# Altium integrated library nucleo-144.IntLib: 1 symbol
Pins are listed as number, name and electrical type; pins without a type are passive.

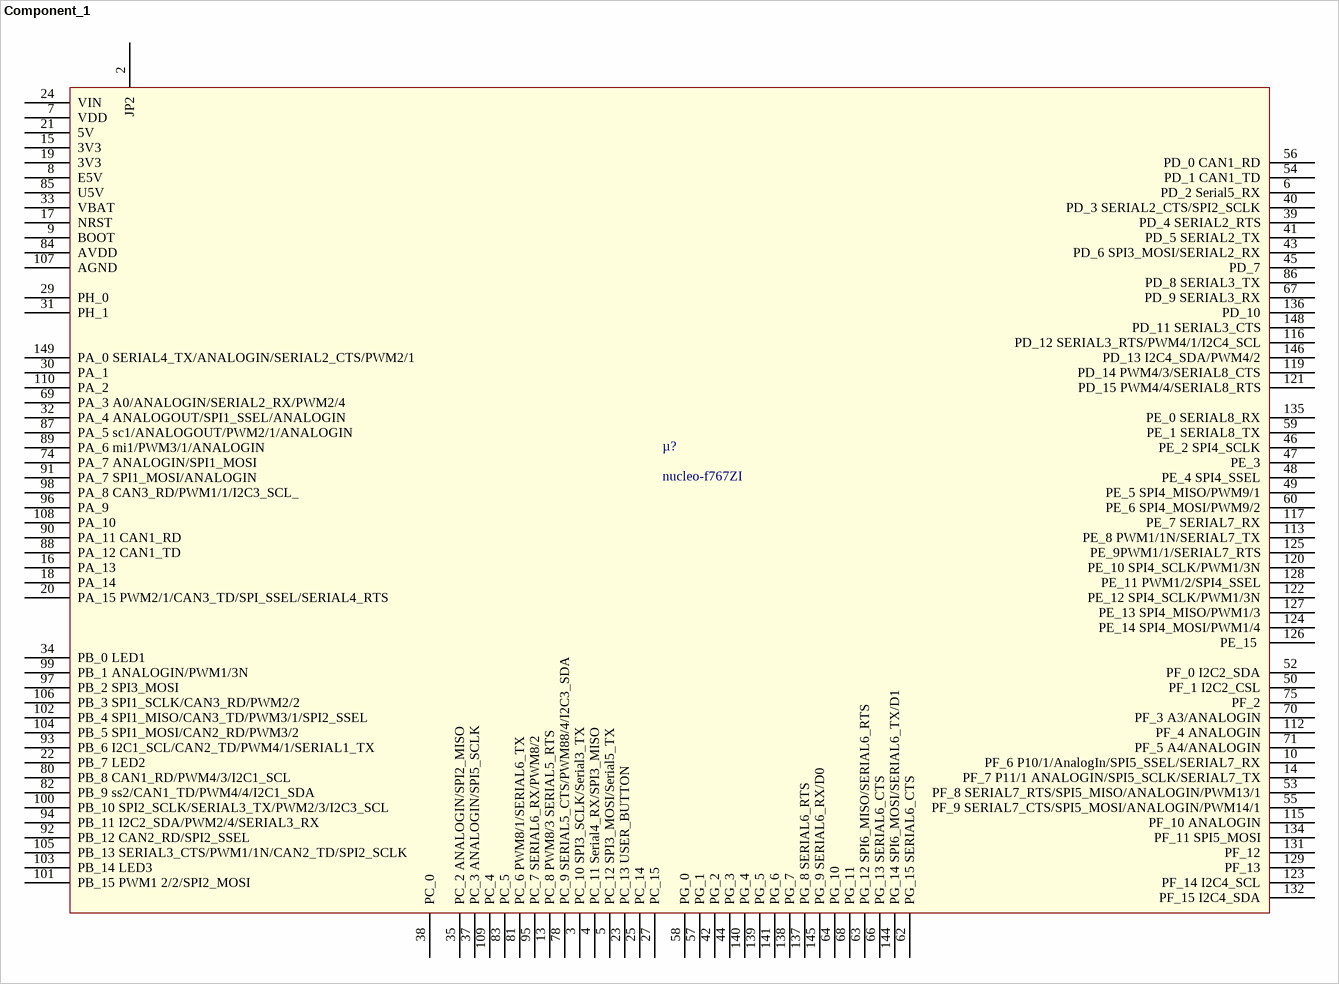
[diagram p0: symbol Component_1]

## Component_1
designator µ?, comment nucleo-f767ZI
footprint nucleo-144
pins: 1 GND (power) hidden to GND, 2 JP2, 3 PC_10 SPI3_SCLK/Serial3_TX, 4 PC_11 Serial4_RX/SPI3_MISO, 5 PC_12 SPI3_MOSI/Serial5_TX, 6 PD_2 Serial5_RX, 7 VDD, 8 E5V, 9 BOOT, 10 PF_6 P10/1/AnalogIn/SPI5_SSEL/SERIAL7_RX, 11 NC hidden, 12 NC hidden, 13 PC_8 PWM8/3 SERIAL5_RTS, 14 PF_7 P11/1 ANALOGIN/SPI5_SCLK/SERIAL7_TX, 15 3V3, 16 PA_13, 17 NRST, 18 PA_14, 19 3V3, 20 PA_15 PWM2/1/CAN3_TD/SPI_SSEL/SERIAL4_RTS, 21 5V, 22 PB_7 LED2, 23 PC_13 USER_BUTTON, 24 VIN (power), 25 PC_14, 26 NC hidden, 27 PC_15, 29 PH_0, 30 PA_1, 31 PH_1, 32 PA_4 ANALOGOUT/SPI1_SSEL/ANALOGIN, 33 VBAT, 34 PB_0 LED1, 35 PC_2 ANALOGIN/SPI2_MISO, 37 PC_3 ANALOGIN/SPI5_SCLK, 38 PC_0, 39 PD_4 SERIAL2_RTS, 40 PD_3 SERIAL2_CTS/SPI2_SCLK, 41 PD_5 SERIAL2_TX, 42 PG_2 , 43 PD_6 SPI3_MOSI/SERIAL2_RX, 44 PG_3, 45 PD_7, 46 PE_2 SPI4_SCLK, 47 PE_3, 48 PE_4 SPI4_SSEL, 49 PE_5 SPI4_MISO/PWM9/1, 50 PF_1 I2C2_CSL, 52 PF_0 I2C2_SDA, 53 PF_8 SERIAL7_RTS/SPI5_MISO/ANALOGIN/PWM13/1, 54 PD_1 CAN1_TD, 55 PF_9 SERIAL7_CTS/SPI5_MOSI/ANALOGIN/PWM14/1, 56 PD_0 CAN1_RD, 57 PG_1, 58 PG_0, 59 PE_1 SERIAL8_TX, 60 PE_6 SPI4_MOSI/PWM9/2, 62 PG_15 SERIAL6_CTS, 63 PG_12 SPI6_MISO/SERIAL6_RTS, 64 PG_10, 65 NC hidden, 66 PG_13 SERIAL6_CTS, 67 PD_9 SERIAL3_RX, 68 PG_11, 69 PA_3 A0/ANALOGIN/SERIAL2_RX/PWM2/4, 70 PF_3 A3/ANALOGIN, 71 PF_5 A4/ANALOGIN, 73 NC hidden, 74 PA_7 ANALOGIN/SPI1_MOSI, 75 PF_2, 78 PC_9 SERIAL5_CTS/PWM88/4/I2C3_SDA, 80 PB_8 CAN1_RD/PWM4/3/I2C1_SCL, 81 PC_6 PWM8/1/SERIAL6_TX, 82 PB_9 ss2/CAN1_TD/PWM4/4/I2C1_SDA, 83 PC_5, 84 AVDD, 85 U5V, 86 PD_8 SERIAL3_TX, 87 PA_5 sc1/ANALOGOUT/PWM2/1/ANALOGIN, 88 PA_12 CAN1_TD, 89 PA_6 mi1/PWM3/1/ANALOGIN, 90 PA_11 CAN1_RD, 91 PA_7 SPI1_MOSI/ANALOGIN, 92 PB_12 CAN2_RD/SPI2_SSEL, 93 PB_6 I2C1_SCL/CAN2_TD/PWM4/1/SERIAL1_TX, 94 PB_11 I2C2_SDA/PWM2/4/SERIAL3_RX, 95 PC_7 SERIAL6_RX/PWM8/2, 96 PA_9, 97 PB_2 SPI3_MOSI, 98 PA_8 CAN3_RD/PWM1/1/I2C3_SCL_, 99 PB_1 ANALOGIN/PWM1/3N, 100 PB_10 SPI2_SCLK/SERIAL3_TX/PWM2/3/I2C3_SCL, 101 PB_15 PWM1 2/2/SPI2_MOSI, 102 PB_4 SPI1_MISO/CAN3_TD/PWM3/1/SPI2_SSEL, 103 PB_14 LED3, 104 PB_5 SPI1_MOSI/CAN2_RD/PWM3/2, 105 PB_13 SERIAL3_CTS/PWM1/1N/CAN2_TD/SPI2_SCLK, 106 PB_3 SPI1_SCLK/CAN3_RD/PWM2/2, 107 AGND, 108 PA_10, 109 PC_4, 110 PA_2, 112 PF_4 ANALOGIN, 113 PE_8 PWM1/1N/SERIAL7_TX, 115 PF_10 ANALOGIN, 116 PD_12 SERIAL3_RTS/PWM4/1/I2C4_SCL, 117 PE_7 SERIAL7_RX, 119 PD_14 PWM4/3/SERIAL8_CTS, 120 PE_10 SPI4_SCLK/PWM1/3N, 121 PD_15 PWM4/4/SERIAL8_RTS, 122 PE_12 SPI4_SCLK/PWM1/3N, 123 PF_14 I2C4_SCL, 124 PE_14 SPI4_MOSI/PWM1/4, 125 PE_9PWM1/1/SERIAL7_RTS, 126 PE_15 , 127 PE_13 SPI4_MISO/PWM1/3, 128 PE_11 PWM1/2/SPI4_SSEL, 129 PF_13, 131 PF_12, 132 PF_15 I2C4_SDA, 134 PF_11 SPI5_MOSI, 135 PE_0 SERIAL8_RX, 136 PD_10, 137 PG_8 SERIAL6_RTS, 138 PG_7, 139 PG_5, 140 PG_4, 141 PG_6, 144 PG_14 SPI6_MOSI/SERIAL6_TX/D1, 145 PG_9 SERIAL6_RX/D0, 146 PD_13 I2C4_SDA/PWM4/2, 148 PD_11 SERIAL3_CTS, 149 PA_0 SERIAL4_TX/ANALOGIN/SERIAL2_CTS/PWM2/1